# EAGLE library part 691307500004 (library Wuerth_Elektronik_eiCan_Terminal_Blocks_v2.0)
WR-TBL Serie 3075 - 5.08mm Reversed Gender Vertiacal PCB Header , 4 pins
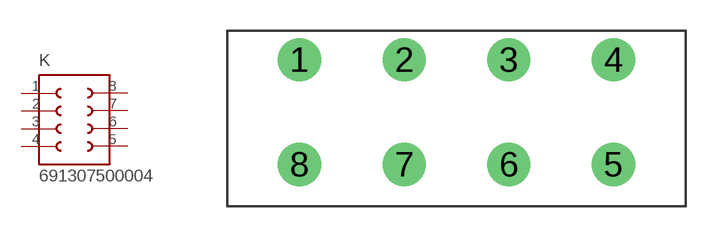
[diagram p172: symbol with the pads of 691307500004; footprint 691307500004]

Designator prefix K

## 691307500004  [691307500004]
1  1  pas
2  2  pas
3  3  pas
4  4  pas
5  5  pas
6  6  pas
7  7  pas
8  8  pas

## Footprint 691307500004 (pad centres in mm)
WR-TBL Serie 3075 - 5.08mm Reversed Gender Vertiacal PCB Header , 4 pins
drill 1.4 round: 1 -15.24,0; 2 -10.16,0; 3 -5.08,0; 4 0,0; 5 0,-5.08; 6 -5.08,-5.08; 7 -10.16,-5.08; 8 -15.24,-5.08